# Altium schematic symbol library RSX_Inductors.SchLib: 1 symbol
Pins are listed as number, name and electrical type; pins without a type are passive.

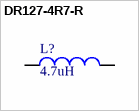
[diagram p0: symbol DR127-4R7-R]

## DR127-4R7-R
designator L?  value 4.7uH
4.7µH Shielded Wirewound Inductor 8.25A 9.17mOhm Nonstandard; Code_IEC: 1005; Published: 8-Jun-2000; LatestRevisionDate: 29-May-2009; LatestRevisionNote: IPC-7351 Footprint Added.; PackageReference: 0402-A; Publisher: Altium Limited; PackageDescription: Chip Inductor; Code_JEITA: 0402
footprint DR127-4R7-R (Fixed Inductors 4.7uH 16.5A 0.0092ohms)
pins: 1, 2